# Altium integrated library Fuse1206.IntLib: 1 symbol
Pins are listed as number, name and electrical type; pins without a type are passive.

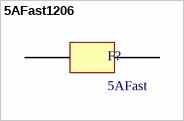
[diagram p0: symbol 5AFast1206]

## 5AFast1206
designator F?, comment 5AFast
footprint 1206
pins: Fusein In, Fuseout Out